# Altium footprint library LMR51430YDDCR.PcbLib: 3 footprints
Each footprint in its own frame and in the unit in brackets; x right, y up, seen from the top. Pads: shape width x height; smd on the part's side, far side on the other; paste and mask are expansions set on the pad; w line width, h text height; cw(c..) or ccw(c..) is an arc to the next point about the centre after c.
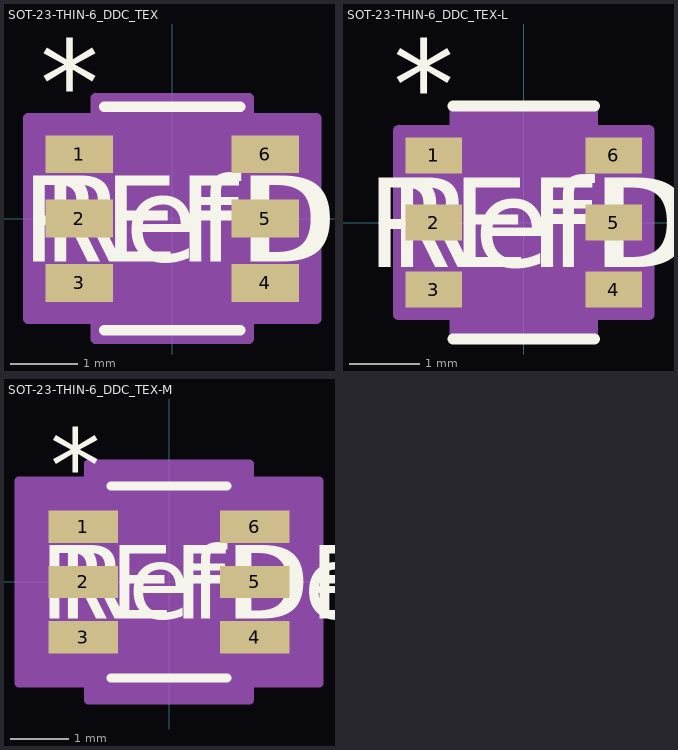
[diagram p0: the footprints below, top view; thin cyan lines are the x and y axes]

## SOT-23-THIN-6_DDC_TEX [mm]
pads (6):
  rect 0.998x0.558 smd paste+0 mask+0: 1(-1.375,0.95) 2(-1.375,0) 3(-1.375,-0.95) 4(1.375,-0.95) 5(1.375,0) 6(1.375,0.95)
Top Overlay:
  lines w0.152: -1.003,-1.651 1.003,-1.651 ; -1.003,1.651 1.003,1.651
  text "REFDES" at -2.222,-0.635 h1.27
  text "*" at -1.947,1.381 h1.27
  text "RefDes" at -1.905,-0.635 h1.27
Mechanical 13:
  lines w0: -0.305,1.524 ccw(c0,1.524) 0.305,1.524
  lines w0.025: -1.524,-1.204 -1.524,-0.696 -0.876,-0.696 -0.876,-1.204 -1.524,-1.204 ; -1.524,-0.254 -1.524,0.254 -0.876,0.254 -0.876,-0.254 -1.524,-0.254 ; -1.524,0.696 -1.524,1.204 -0.876,1.204 -0.876,0.696 -1.524,0.696 ; -0.876,-1.524 0.876,-1.524 0.876,1.524 -0.876,1.524 -0.876,-1.524 ; 0.876,-1.204 0.876,-0.696 1.524,-0.696 1.524,-1.204 0.876,-1.204 ; 0.876,-0.254 0.876,0.254 1.524,0.254 1.524,-0.254 0.876,-0.254 ; 0.876,0.696 0.876,1.204 1.524,1.204 1.524,0.696 0.876,0.696
  text "*" at -0.813,0.178 h1.27
  text "RefDes2" at -2.222,-0.635 h1.27
Mechanical 15:
  region: -1.13,-1.483 -2.128,-1.483 -2.128,1.483 -1.13,1.483 -1.13,1.778 1.13,1.778 1.13,1.483 2.128,1.483 2.128,-1.483 1.13,-1.483 1.13,-1.778 -1.13,-1.778
  lines w0.152: -2.128,-1.483 -2.128,1.483 -1.13,1.483 -1.13,1.778 1.13,1.778 1.13,1.483 2.128,1.483 2.128,-1.483 1.13,-1.483 1.13,-1.778 -1.13,-1.778 -1.13,-1.483 -2.128,-1.483
3D body "SOT-23-THIN-6_DDC_TEX.step": height 1.09, standoff 0, extent -1.524,-1.524 1.524,1.524

## SOT-23-THIN-6_DDC_TEX-L [mil]
pads (6):
  rect 31.41x20 smd paste+0 mask+0: 1(-50.2,37.4) 2(-50.2,0) 3(-50.2,-37.4) 4(50.2,-37.4) 5(50.2,0) 6(50.2,37.4)
Top Overlay:
  lines w6: -39.5,-65 39.5,-65 ; -39.5,65 39.5,65
  text "REFDES" at -87.5,-25 h50
  text "*" at -72.7,52.4 h50
  text "RefDes" at -75,-25 h50
Mechanical 13:
  lines w0: -12,60 ccw(c0,60) 12,60
  lines w1: -60,-47.4 -60,-27.4 -34.5,-27.4 -34.5,-47.4 -60,-47.4 ; -60,-10 -60,10 -34.5,10 -34.5,-10 -60,-10 ; -60,27.4 -60,47.4 -34.5,47.4 -34.5,27.4 -60,27.4 ; -34.5,-60 34.5,-60 34.5,60 -34.5,60 -34.5,-60 ; 34.5,-47.4 34.5,-27.4 60,-27.4 60,-47.4 34.5,-47.4 ; 34.5,-10 34.5,10 60,10 60,-10 34.5,-10 ; 34.5,27.4 34.5,47.4 60,47.4 60,27.4 34.5,27.4
  text "*" at -32,7 h50
  text "RefDes2" at -87.5,-25 h50
Mechanical 15:
  region: -38.5,-51.4 -69.91,-51.4 -69.91,51.4 -38.5,51.4 -38.5,64 38.5,64 38.5,51.4 69.91,51.4 69.91,-51.4 38.5,-51.4 38.5,-64 -38.5,-64
  lines w6: -69.91,-51.4 -69.91,51.4 -38.5,51.4 -38.5,64 38.5,64 38.5,51.4 69.91,51.4 69.91,-51.4 38.5,-51.4 38.5,-64 -38.5,-64 -38.5,-51.4 -69.91,-51.4
3D body "SOT-23-THIN-6_DDC_TEX.step": height 43.11, standoff 0, extent -60,-60 60,60

## SOT-23-THIN-6_DDC_TEX-M [mm]
pads (6):
  rect 1.198x0.558 smd paste+0 mask+0: 1(-1.475,0.95) 2(-1.475,0) 3(-1.475,-0.95) 4(1.475,-0.95) 5(1.475,0) 6(1.475,0.95)
Top Overlay:
  lines w0.152: -1.003,-1.651 1.003,-1.651 ; -1.003,1.651 1.003,1.651
  text "REFDES" at -2.222,-0.635 h1.27
  text "*" at -2.047,1.381 h1.27
  text "RefDes" at -1.905,-0.635 h1.27
Mechanical 13:
  lines w0: -0.305,1.524 ccw(c0,1.524) 0.305,1.524
  lines w0.025: -1.524,-1.204 -1.524,-0.696 -0.876,-0.696 -0.876,-1.204 -1.524,-1.204 ; -1.524,-0.254 -1.524,0.254 -0.876,0.254 -0.876,-0.254 -1.524,-0.254 ; -1.524,0.696 -1.524,1.204 -0.876,1.204 -0.876,0.696 -1.524,0.696 ; -0.876,-1.524 0.876,-1.524 0.876,1.524 -0.876,1.524 -0.876,-1.524 ; 0.876,-1.204 0.876,-0.696 1.524,-0.696 1.524,-1.204 0.876,-1.204 ; 0.876,-0.254 0.876,0.254 1.524,0.254 1.524,-0.254 0.876,-0.254 ; 0.876,0.696 0.876,1.204 1.524,1.204 1.524,0.696 0.876,0.696
  text "*" at -0.813,0.178 h1.27
  text "RefDes2" at -2.222,-0.635 h1.27
Mechanical 15:
  region: -1.384,-1.737 -2.582,-1.737 -2.582,1.737 -1.384,1.737 -1.384,2.032 1.384,2.032 1.384,1.737 2.582,1.737 2.582,-1.737 1.384,-1.737 1.384,-2.032 -1.384,-2.032
  lines w0.152: -2.582,-1.737 -2.582,1.737 -1.384,1.737 -1.384,2.032 1.384,2.032 1.384,1.737 2.582,1.737 2.582,-1.737 1.384,-1.737 1.384,-2.032 -1.384,-2.032 -1.384,-1.737 -2.582,-1.737
3D body "SOT-23-THIN-6_DDC_TEX.step": height 1.09, standoff 0, extent -1.524,-1.524 1.524,1.524